# EAGLE library part CDD2WL0915D (library DC-DC menice)
DC/DC menic 2-3 W dva výstupy
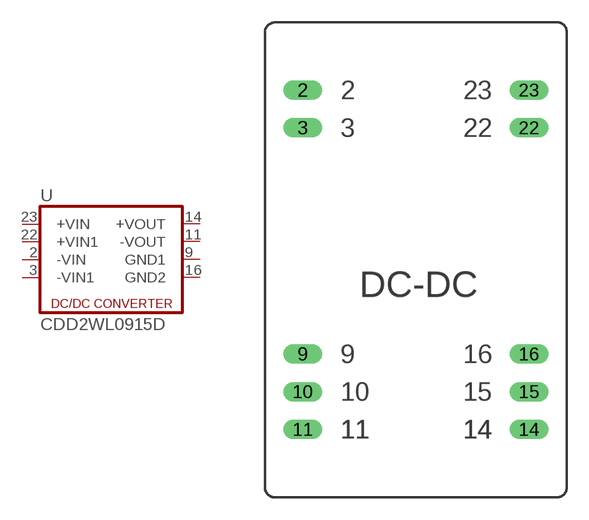
[diagram p17: symbol with the pads of CDD-DIL24; footprint CDD-DIL24]

Designator prefix -

## CDD2WL0915D  [CDD-DIL24]
2  -VIN  pas
3  -VIN1  pas
9  GND1  pas
11  -VOUT  pas
14  +VOUT  pas
16  GND2  pas
22  +VIN1  pas
23  +VIN  pas

## Footprint CDD-DIL24 (pad centres in mm)
drill 0.813 long: 2 -7.62,11.43; 3 -7.62,8.89; 9 -7.62,-6.35; 10 -7.62,-8.89; 11 -7.62,-11.43; 14 7.62,-11.43; 15 7.62,-8.89; 16 7.62,-6.35; 22 7.62,8.89; 23 7.62,11.43